# Altium schematic symbol library MAL215097803E3.SchLib: 1 symbol
Pins are listed as number, name and electrical type; pins without a type are passive.

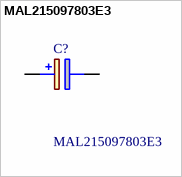
[diagram p0: symbol MAL215097803E3]

## MAL215097803E3
designator C?
Aluminum Electrolytic Capacitors - SMD 100UF 63V 105C 3000H; Manufacturer_Name: Vishay; Geometry.Height: 14.3mm; Mouser Part Number: 594-MAL215097803E3; Mouser Price/Stock: https://www.mouser.co.uk/ProductDetail/Vishay-BC-Components/MAL215097803E3?qs=qmStTZH4TzkGiv%2F5tmpzfQ%3D%3D; Manufacturer_Part_Number: MAL215097803E3; Datasheet Link: https://www.vishay.com/docs/28395/150crz.pdf
footprint CAPAE1050X1430N
pins: 1 +, 2 -